# Altium schematic symbol library RT6255BHGJ8F.SchLib: 1 symbol
Pins are listed as number, name and electrical type; pins without a type are passive.

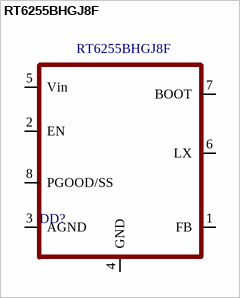
[diagram p0: symbol RT6255BHGJ8F]

## RT6255BHGJ8F
designator DD?
footprint Model Name (Footprint not found)
pins: 1 FB, 2 EN, 3 AGND, 4 GND, 5 Vin, 6 LX, 7 BOOT, 8 PGOOD/SS